# Altium footprint library 邮票孔封装.PcbLib: 1 footprints
Each footprint in its own frame and in the unit in brackets; x right, y up, seen from the top. Pads: shape width x height; smd on the part's side, far side on the other; paste and mask are expansions set on the pad; w line width, h text height; cw(c..) or ccw(c..) is an arc to the next point about the centre after c.
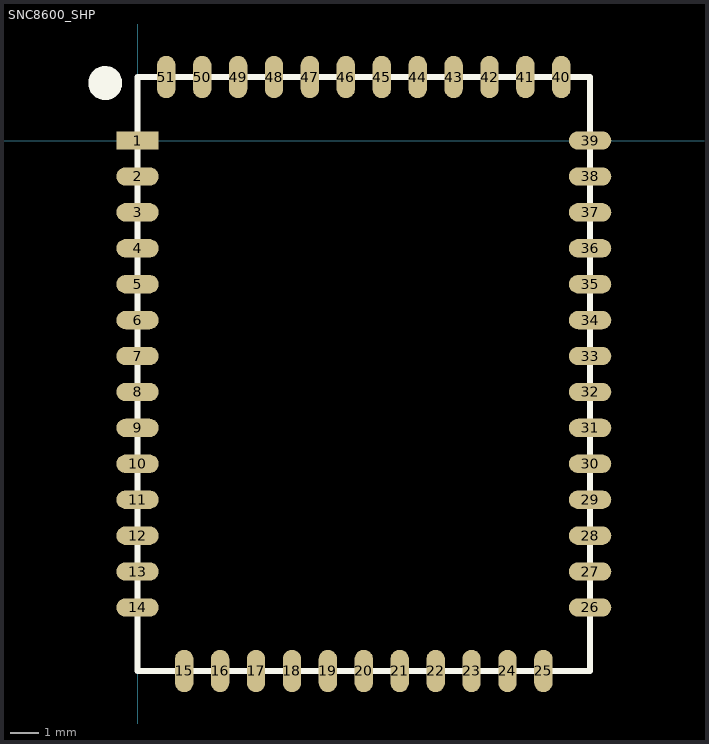
[diagram p0: the footprint, top view; thin cyan lines are the x and y axes]

## SNC8600_SHP [mm]
pads (51):
  rect 1.5x0.65 smd: 1(0,0)
  oval 1.5x0.65 smd: 2(0,-1.27) 3(0,-2.54) 4(0,-3.81) 5(0,-5.08) 6(0,-6.35) 7(0,-7.62) 8(0,-8.89) 9(0,-10.16) 10(0,-11.43) 11(0,-12.7) 12(0,-13.97) 13(0,-15.24) 14(0,-16.51) 26(16,-16.51) 27(16,-15.24) 28(16,-13.97) 29(16,-12.7) 30(16,-11.43) 31(16,-10.16) 32(16,-8.89) 33(16,-7.62) 34(16,-6.35) 35(16,-5.08) 36(16,-3.81) 37(16,-2.54) 38(16,-1.27) 39(16,0)
  oval 0.65x1.5 smd: 15(1.65,-18.755) 16(2.92,-18.755) 17(4.19,-18.755) 18(5.46,-18.755) 19(6.73,-18.755) 20(8,-18.755) 21(9.27,-18.755) 22(10.54,-18.755) 23(11.81,-18.755) 24(13.08,-18.755) 25(14.35,-18.755) 40(14.985,2.245) 41(13.715,2.245) 42(12.445,2.245) 43(11.175,2.245) 44(9.905,2.245) 45(8.635,2.245) 46(7.365,2.245) 47(6.095,2.245) 48(4.825,2.245) 49(3.555,2.245) 50(2.285,2.245) 51(1.015,2.245)
Top Overlay:
  circle w0.6: c-1.143,2.032 r0.3
  lines w0.2: 0,-18.755 0,2.245 16,2.245 16,-18.755 0,-18.755